# Altium schematic symbol library con_molex_8_52207-0833.SchLib: 1 symbol
Pins are listed as number, name and electrical type; pins without a type are passive.

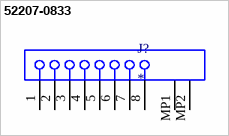
[diagram p0: symbol 52207-0833]

## 52207-0833
designator J?
footprint con_molex_8_52207-0833
pins: 1, 2, 3, 4, 5, 6, 7, 8, MP1, MP2